# Altium schematic symbol library Library_Maciej.Jazłowiecki.SchLib: 9 symbols
Pins are listed as number, name and electrical type; pins without a type are passive.

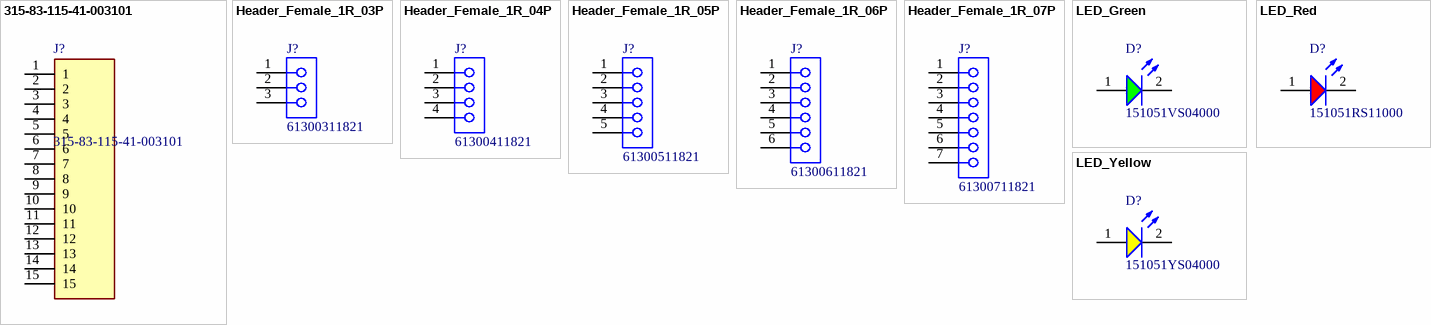
[diagram p0: symbols 315-83-115-41-003101 to LED_Yellow]

## 315-83-115-41-003101
designator J?
15 Position Socket Connector 0.100" (2.54mm) Through Hole Gold; Manufacturer_Name: Preci-Dip; Geometry.Height: 2.41mm; Mouser Part Number: *; Mouser Price/Stock: *; Manufacturer_Part_Number: 315-83-115-41-003101; Datasheet Link: https://www.precidip.com/pview/315-PP-1NN-41-003101.html?hkey=EF798316E3902B6ED9A73243A3159BB0
footprint RHDR15W78P0X254_1X15_3810X254X241P
pins: 1, 2, 3, 4, 5, 6, 7, 8, 9, 10, 11, 12, 13, 14, 15

## Header_Female_1R_03P
designator J?, comment 61300311821
Btb Conn, Rcpt, 3Pos, 1Row, 2.54Mm Rohs Compliant: Yes; Current Rating: 3A; Operating Supply Voltage: 250V; Contact Resistance: 20mΩ; Gender: Female; Number of Pins: 3; Lead Pitch: 2.54mm; RoHS: Non-Compliant; Orientation: Vertical
footprint 61300311821 (Btb Conn, Rcpt, 3Pos, 1Row, 2.54Mm Rohs Compliant: Yes)
pins: 1, 2, 3

## Header_Female_1R_04P
designator J?, comment 61300411821
THT Vertical Socket Header WR-PHD, Pitch 2.54 mm, Single Row, 4 pins; Current Rating: 3A; Gender: Female; Contact Resistance: 20mΩ; Operating Supply Voltage: 250V; Number of Pins: 4; Lead Pitch: 2.54mm; Orientation: Vertical
footprint 61300411821 (THT Vertical Socket Header WR-PHD, Pitch 2.54 mm, Single Row, 4 pins)
pins: 1, 2, 3, 4

## Header_Female_1R_05P
designator J?, comment 61300511821
THT Vertical Socket Header WR-PHD, Pitch 2.54 mm, Single Row, 5 pins; Gender: Female; Contact Resistance: 20mΩ; Operating Supply Voltage: 250V; Current Rating: 3A; Number of Pins: 5; Lead Pitch: 2.54mm; Orientation: Vertical
footprint 61300511821 (THT Vertical Socket Header WR-PHD, Pitch 2.54 mm, Single Row, 5 pins)
pins: 1, 2, 3, 4, 5

## Header_Female_1R_06P
designator J?, comment 61300611821
THT Vertical Socket Header WR-PHD, Pitch 2.54 mm, Single Row, 6 pins; Current Rating: 3A; Contact Resistance: 20mΩ; Gender: Female; Operating Supply Voltage: 250V; RoHS: Compliant; Orientation: Vertical; Number of Pins: 6; Lead Pitch: 2.54mm
footprint 61300611821 (THT Vertical Socket Header WR-PHD, Pitch 2.54 mm, Single Row, 6 pins)
pins: 1, 2, 3, 4, 5, 6

## Header_Female_1R_07P
designator J?, comment 61300711821
Btb Conn, Rcpt, 7Pos, 1Row, 2.54Mm Rohs Compliant: Yes; Gender: Female; Operating Supply Voltage: 250V; Current Rating: 3A; Contact Resistance: 20mΩ; Lead Pitch: 2.54mm; RoHS: Non-Compliant; Orientation: Vertical; Number of Pins: 7
footprint 61300711821 (Btb Conn, Rcpt, 7Pos, 1Row, 2.54Mm Rohs Compliant: Yes)
pins: 1, 2, 3, 4, 5, 6, 7

## LED_Green
designator D?, comment 151051VS04000
151051VS04000 5mm Green LED 2.1V 30mA 140mcd 40°; NexarPartId: 29717814; Max Reverse Voltage (DC): 5V; Wavelength: 572nm; Forward Current: 100mA; Peak Wavelength: 573nm; Test Current: 20mA; Lens Style: Circular, Diffused, Round; Forward Voltage: 2.1V; Viewing Angle: 40°; Lens Size: 5mm; Luminous Intensity: 140mcd; Color: Green; REACH SVHC: Unknown; Height: 8.6mm; Mount: Through Hole; Width: 5mm; Length: 5mm; Min Operating Temperature: -40°C; RoHS: Compliant; Dominant Wavelength: 572nm; Case/Package: Radial; Max Operating Temperature: 85°C; Packaging: Bulk
footprint WL-TMRC_D5.9H8.7 (Single Color LED, Blue, Diffused, T-1 3/4, 4.9mm)
pins: 1 A, 2 K

## LED_Red
designator D?, comment 151051RS11000
WL-TMRC Red Color Diffused 5 mm Round Through Hole LED /; NexarPartId: 29717813; Lens Style: Circular, Diffused, Round; Lens Size: 5mm; Forward Voltage: 2.1V; Peak Wavelength: 650nm; Forward Current: 100mA; Viewing Angle: 60°; Wavelength: 630nm; Test Current: 20mA; Dominant Wavelength: 645nm; Luminous Intensity: 30mcd; Max Reverse Voltage (DC): 5V; Height: 8.6mm; Length: 5mm; Min Operating Temperature: -40°C; Max Operating Temperature: 85°C; Packaging: Bulk; REACH SVHC: Unknown; Color: Red; Case/Package: Radial; RoHS: Compliant; Width: 5mm; Mount: Through Hole
footprint WL-TMRC_D5.9H8.7 (Single Color LED, Blue, Diffused, T-1 3/4, 4.9mm)
pins: 1 A, 2 K

## LED_Yellow
designator D?, comment 151051YS04000
WL-TMRC THT Mono-color Round Color; NexarPartId: 29717815; Wavelength: 590nm; Viewing Angle: 40°; Forward Current: 100mA; Lens Style: Circular, Diffused, Round; Luminous Intensity: 450mcd; Max Reverse Voltage (DC): 5V; Peak Wavelength: 592nm; Lens Size: 5mm; Color: Yellow; Test Current: 20mA; Forward Voltage: 2V; Height: 8.6mm; REACH SVHC: Unknown; Case/Package: Radial; Min Operating Temperature: -40°C; Packaging: Bulk; Width: 5mm; Mount: Through Hole; Length: 5mm; Max Operating Temperature: 85°C; Dominant Wavelength: 590nm; RoHS: Compliant
footprint WL-TMRC_D5.9H8.7 (Single Color LED, Blue, Diffused, T-1 3/4, 4.9mm)
pins: 1 A, 2 K